# Altium footprint library level shifter 4C.PcbLib: 1 footprints
Each footprint in its own frame and in the unit in brackets; x right, y up, seen from the top. Pads: shape width x height; smd on the part's side, far side on the other; paste and mask are expansions set on the pad; w line width, h text height; cw(c..) or ccw(c..) is an arc to the next point about the centre after c.
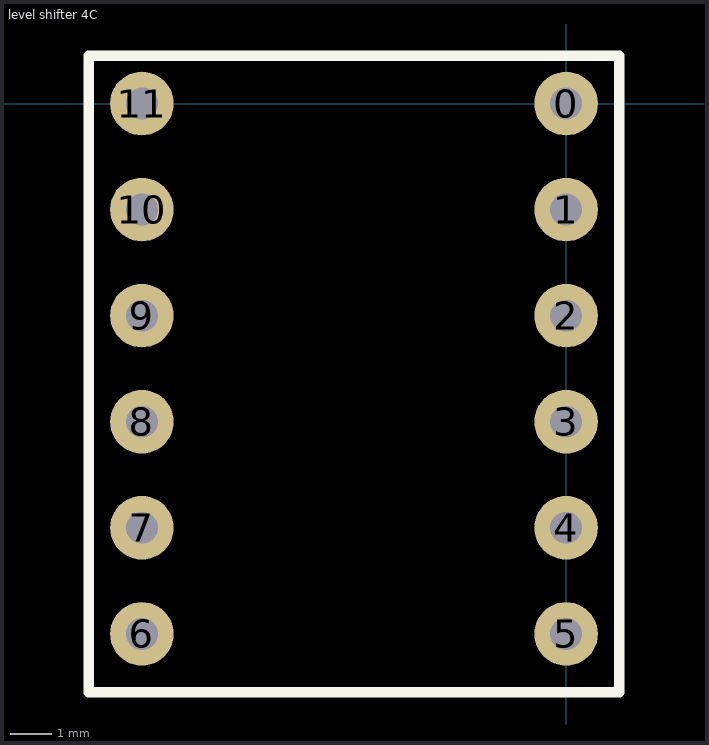
[diagram p0: the footprint, top view; thin cyan lines are the x and y axes]

## level shifter 4C [mil]
pads (12):
  round 60 hole 30: 0(0,0) 1(0,-100) 2(0,-200) 3(0,-300) 4(0,-400) 5(0,-500) 6(-400,-500) 7(-400,-400) 8(-400,-300) 9(-400,-200) 10(-400,-100) 11(-400,0)
Top Overlay:
  lines w10: -450,-555 50,-555 50,45 -450,45 -450,-555